# EAGLE library part DS1307 (library we-chip)
Maxim DS1307 RTC (Real Time Clock)
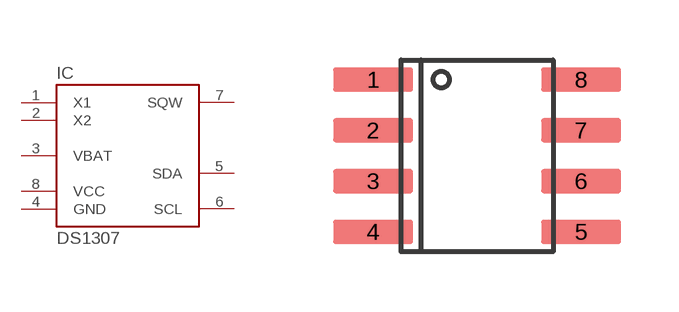
[diagram p12: symbol with the pads of SO08; footprint SO08]

Designator prefix IC

## DS1307  [SO08]
1  X1
2  X2
3  VBAT  pwr
4  GND  pwr
5  SDA
6  SCL
7  SQW
8  VCC  pwr

## Footprint SO08 (pad centres in mm)
smd 2 x 0.6: 1 -2.6,1.905; 2 -2.6,0.635; 3 -2.6,-0.635; 4 -2.6,-1.905; 5 2.6,-1.905; 6 2.6,-0.635; 7 2.6,0.635; 8 2.6,1.905